# EAGLE library part 61300911021 (library Wuerth_Elektronik_eiCan_Pin_&_Socked_Headers_v1.3)
WR-PHD 2.54mm Angled Pin Header, 9 Pins
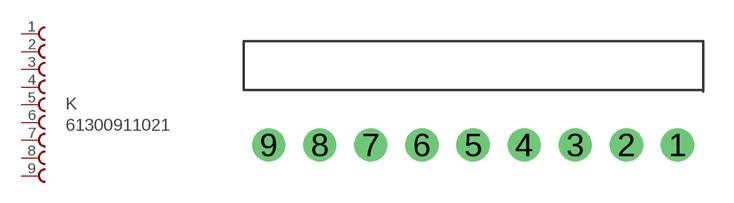
[diagram p42: symbol with the pads of 61300911021; footprint 61300911021]

Designator prefix K

## 61300911021  [61300911021]
1  1  pas
2  2  pas
3  3  pas
4  4  pas
5  5  pas
6  6  pas
7  7  pas
8  8  pas
9  9  pas

## Footprint 61300911021 (pad centres in mm)
WR-PHD 2.54mm Angled Pin Header, 9 Pins
drill 1.1 round: 1 10.16,0; 2 7.62,0; 3 5.08,0; 4 2.54,0; 5 0,0; 6 -2.54,0; 7 -5.08,0; 8 -7.62,0; 9 -10.16,0